# EAGLE library part 1985234 (library 1985234)
PCB terminal block, nominal current: 8 A, rated voltage (III/2): 400 V, nominal cross section: 1.5 mm, number of potentials: 6, number of rows: 1, number of positions per row: 6, product range: PTSA 1,5, pitch: 3.5 mm, connection method: Push-in spring connection, mounting: Wave soldering, conductor/PCB connection direction: 45 , color: green, Pin layout: Zigzag pinning W, Solder pin [P]: 3.5 mm, number of solder pins per potential: 1, type of packaging: packed in cardboard. Offset soldering legs, two-row Source: Datasheet <https://datasheet.datasheetarchive.com/originals/distributors/SFDatasheet-2/sf-00059076.pdf>
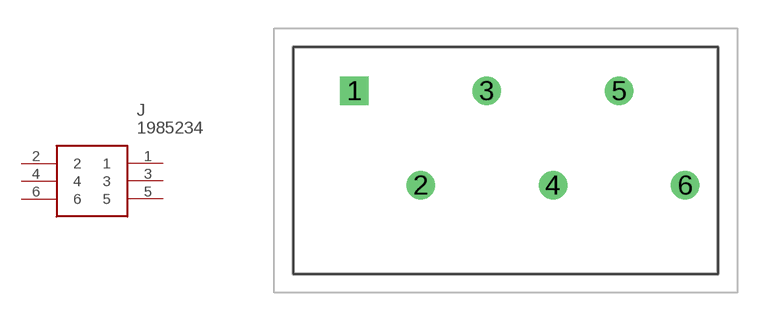
[diagram p0: symbol with the pads of 1985234; footprint 1985234]

Designator prefix J

## 1985234 (Description: PCB terminal block, nominal current: 8 A, rated voltage (III/2): 400 V, nominal cross section: 1.5 mm, number of potentials: 6, number of rows: 1, number of positions per row: 6, product range: PTSA 1,5, pitch: 3.5 mm, connection method: Push-in spring connection, mounting: Wave soldering, conductor/PCB connection direction: 45 , color: green, Pin layout: Zigzag pinning W, Solder pin [P]: 3.5 mm, number of solder pins per potential: 1, type of packaging: packed in cardboard. Offset soldering legs, two-row; Height: 13.1mm; Manufacturer_Name: Phoenix Contact; Manufacturer_Part_Number: 1985234; Mouser_Part_Number: 651-1985234; Mouser_Price-Stock: https://www.mouser.co.uk/ProductDetail/Phoenix-Contact/1985234?qs=A%2FKWGUWTCZgjCof%252B1YY92w%3D%3D)  [1985234]
1  1
2  2
3  3
4  4
5  5
6  6

## Footprint 1985234 (pad centres in mm)
1985234_1
drill 1 pad 1.5 square: 1 0,0
drill 1 pad 1.5: 2 3.5,-5; 3 7,0; 4 10.5,-5; 5 14,0; 6 17.5,-5